# Altium footprint library Rich Footprints.PcbLib: 155 footprints (part 7 of 10)
Each footprint in its own frame and in the unit in brackets; x right, y up, seen from the top. Pads: shape width x height; smd on the part's side, far side on the other; paste and mask are expansions set on the pad; w line width, h text height; cw(c..) or ccw(c..) is an arc to the next point about the centre after c.
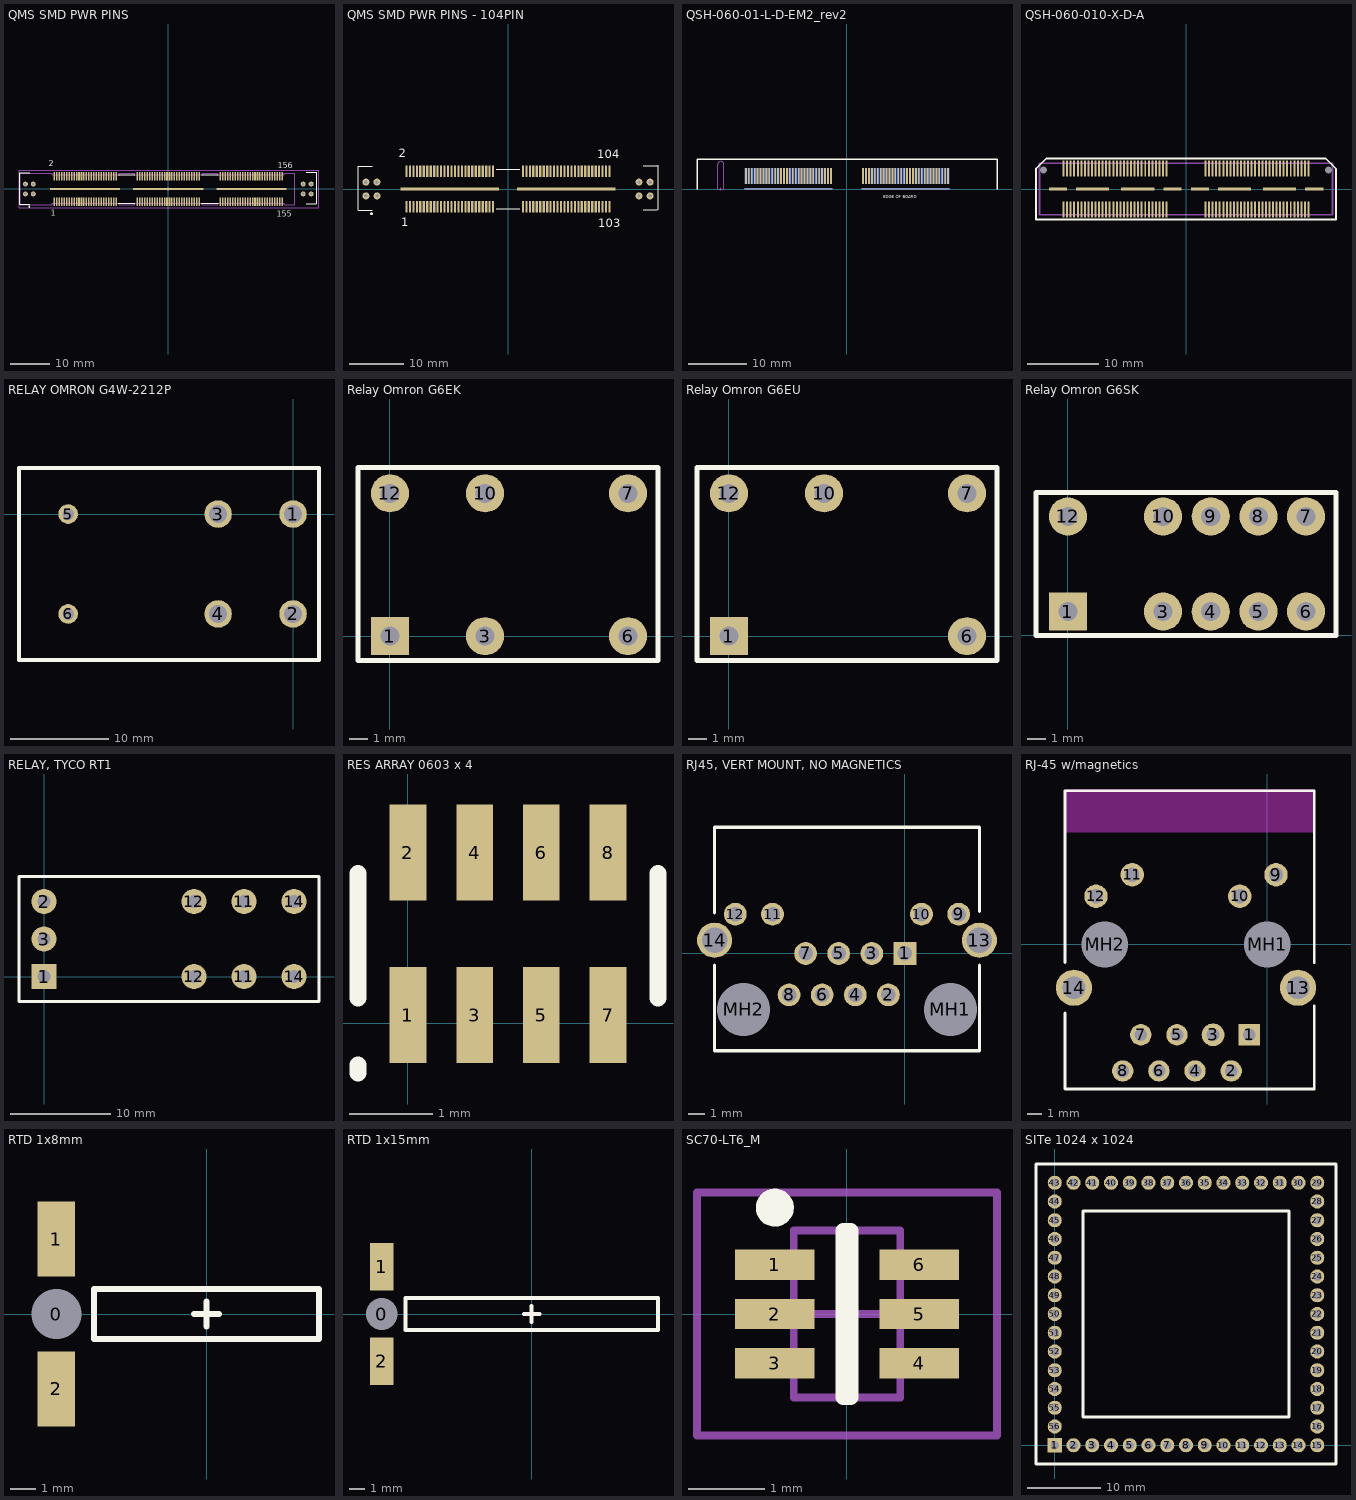
[diagram p6: the footprints below, top view; thin cyan lines are the x and y axes]

## QMS SMD PWR PINS [mm] "78 pos (156 pin) + 8 pwr pins"
height 7.06
pads (167):
  rect 0.4x2.15 smd mask+0: 1(-29.28,-3.24) 2(-29.28,3.24) 3(-28.645,-3.24) 4(-28.645,3.24) 5(-28.01,-3.24) 6(-28.01,3.24) 7(-27.375,-3.24) 8(-27.375,3.24) 9(-26.74,-3.24) 10(-26.74,3.24) 11(-26.105,-3.24) 12(-26.105,3.24) 13(-25.47,-3.24) 14(-25.47,3.24) 15(-24.835,-3.24) 16(-24.835,3.24) 17(-24.2,-3.24) 18(-24.2,3.24) 19(-23.565,-3.24) 20(-23.565,3.24) 21(-22.93,-3.24) 22(-22.93,3.24) 23(-22.295,-3.24) 24(-22.295,3.24) 25(-21.66,-3.24) 26(-21.66,3.24) 27(-21.025,-3.24) 28(-21.025,3.24) 29(-20.39,-3.24) 30(-20.39,3.24) 31(-19.755,-3.24) 32(-19.755,3.24) 33(-19.12,-3.24) 34(-19.12,3.24) 35(-18.485,-3.24) 36(-18.485,3.24) 37(-17.85,-3.24) 38(-17.85,3.24) 39(-17.215,-3.24) 40(-17.215,3.24) 41(-16.58,-3.24) 42(-16.58,3.24) 43(-15.945,-3.24) 44(-15.945,3.24) 45(-15.31,-3.24) 46(-15.31,3.24) 47(-14.675,-3.24) 48(-14.675,3.24) 49(-14.04,-3.24) 50(-14.04,3.24) 51(-13.405,-3.24) 52(-13.405,3.24) 53(-7.94,-3.24) 54(-7.94,3.24) 55(-7.305,-3.24) 56(-7.305,3.24) 57(-6.67,-3.24) 58(-6.67,3.24) 59(-6.035,-3.24) 60(-6.035,3.24) 61(-5.4,-3.24) 62(-5.4,3.24) 63(-4.765,-3.24) 64(-4.765,3.24) 65(-4.13,-3.24) 66(-4.13,3.24) 67(-3.495,-3.24) 68(-3.495,3.24) 69(-2.86,-3.24) 70(-2.86,3.24) 71(-2.225,-3.24) 72(-2.225,3.24) 73(-1.59,-3.24) 74(-1.59,3.24) 75(-0.955,-3.24) 76(-0.955,3.24) 77(-0.32,-3.24) 78(-0.32,3.24) 79(0.315,-3.24) 80(0.315,3.24) 81(0.95,-3.24) 82(0.95,3.24) 83(1.585,-3.24) 84(1.585,3.24) 85(2.22,-3.24) 86(2.22,3.24) 87(2.855,-3.24) 88(2.855,3.24) 89(3.49,-3.24) 90(3.49,3.24) 91(4.125,-3.24) 92(4.125,3.24) 93(4.76,-3.24) 94(4.76,3.24) 95(5.395,-3.24) 96(5.395,3.24) 97(6.03,-3.24) 98(6.03,3.24) 99(6.665,-3.24) 100(6.665,3.24) 101(7.3,-3.24) 102(7.3,3.24) 103(7.935,-3.24) 104(7.935,3.24) 105(13.4,-3.24) 106(13.4,3.24) 107(14.035,-3.24) 108(14.035,3.24) 109(14.67,-3.24) 110(14.67,3.24) 111(15.305,-3.24) 112(15.305,3.24) 113(15.94,-3.24) 114(15.94,3.24) 115(16.575,-3.24) 116(16.575,3.24) 117(17.21,-3.24) 118(17.21,3.24) 119(17.845,-3.24) 120(17.845,3.24) 121(18.48,-3.24) 122(18.48,3.24) 123(19.115,-3.24) 124(19.115,3.24) 125(19.75,-3.24) 126(19.75,3.24) 127(20.385,-3.24) 128(20.385,3.24) 129(21.02,-3.24) 130(21.02,3.24) 131(21.655,-3.24) 132(21.655,3.24) 133(22.29,-3.24) 134(22.29,3.24) 135(22.925,-3.24) 136(22.925,3.24) 137(23.56,-3.24) 138(23.56,3.24) 139(24.195,-3.24) 140(24.195,3.24) 141(24.83,-3.24) 142(24.83,3.24) 143(25.465,-3.24) 144(25.465,3.24) 145(26.1,-3.24) 146(26.1,3.24) 147(26.735,-3.24) 148(26.735,3.24) 149(27.37,-3.24) 150(27.37,3.24) 151(28.005,-3.24) 152(28.005,3.24) 153(28.64,-3.24) 154(28.64,3.24) 155(29.275,-3.24) 156(29.275,3.24)
  rect 18x0.5 smd mask+0: 157(-21.34,0) 158(0,0) 159(21.34,0)
  round 1.27 hole 0.635 mask+0: PC01(-36.703,-1.27) PC02(-36.703,1.27) PC03(-34.671,-1.27) PC04(-34.684,1.27) PC05(34.671,-1.27) PC06(34.671,1.27) PC07(36.703,-1.27) PC08(36.703,1.27)
Top Overlay:
  circle w0.25: c-35.71,-4.521 r0.125
  lines w0.2: -38.16,-3.937 -35.56,-3.937 ; -38.135,-3.92 -38.135,-1.895 -38.135,2.155 -38.135,4.18 -35.535,4.18 ; -12.8,-3.65 -8.55,-3.65 ; -12.8,3.65 -8.55,3.65 ; 8.5,-3.65 12.8,-3.65 ; 8.55,3.65 12.8,3.65 ; 35.449,-3.835 38.049,-3.835 ; 35.475,4.267 38.075,4.267 ; 38.151,-3.785 38.151,4.315
  text "155" at 27.94,-7.112 h1.52
  text "156" at 28.194,5.334 h1.52
  text "1" at -30.226,-6.858 h1.52
  text "2" at -30.734,5.842 h1.52
Mechanical 12:
  lines w0.001: -38.075,-4.05 -38.075,4.05 -29.75,4.05 -29.75,3.65 -12.65,3.65 -12.65,4.05 -8.65,4.05 -8.65,3.65 8.7,3.65 8.7,4.05 12.7,4.05 12.7,3.65 29.75,3.65 29.75,4.05 32.5,4.05 32.5,-4.05 29.75,-4.05 29.75,-3.65 12.7,-3.65 12.7,-4.05 8.7,-4.05 8.7,-3.65 -8.65,-3.65 -8.65,-4.05 -12.65,-4.05 -12.65,-3.65 -29.75,-3.65 -29.75,-4.05 -38.075,-4.05
Mechanical 15:
  lines w0.05: -0.5,0 0.5,0 ; 0,-0.5 0,0.5 ; -38.354,-4.8 -38.354,4.85 38.735,4.85 38.735,-4.8 -38.354,-4.8

## QMS SMD PWR PINS - 104PIN [mm] "52pos (104 pin) + 8 pwr pins"
height 7.06
pads (114):
  rect 0.4x2.15 smd mask+0: 1(-18.612,-3.24) 2(-18.612,3.24) 3(-17.977,-3.24) 4(-17.977,3.24) 5(-17.342,-3.24) 6(-17.342,3.24) 7(-16.707,-3.24) 8(-16.707,3.24) 9(-16.072,-3.24) 10(-16.072,3.24) 11(-15.437,-3.24) 12(-15.437,3.24) 13(-14.802,-3.24) 14(-14.802,3.24) 15(-14.167,-3.24) 16(-14.167,3.24) 17(-13.532,-3.24) 18(-13.532,3.24) 19(-12.897,-3.24) 20(-12.897,3.24) 21(-12.262,-3.24) 22(-12.262,3.24) 23(-11.627,-3.24) 24(-11.627,3.24) 25(-10.992,-3.24) 26(-10.992,3.24) 27(-10.357,-3.24) 28(-10.357,3.24) 29(-9.722,-3.24) 30(-9.722,3.24) 31(-9.087,-3.24) 32(-9.087,3.24) 33(-8.452,-3.24) 34(-8.452,3.24) 35(-7.817,-3.24) 36(-7.817,3.24) 37(-7.182,-3.24) 38(-7.182,3.24) 39(-6.547,-3.24) 40(-6.547,3.24) 41(-5.912,-3.24) 42(-5.912,3.24) 43(-5.277,-3.24) 44(-5.277,3.24) 45(-4.642,-3.24) 46(-4.642,3.24) 47(-4.007,-3.24) 48(-4.007,3.24) 49(-3.372,-3.24) 50(-3.372,3.24) 51(-2.737,-3.24) 52(-2.737,3.24) 53(2.728,-3.24) 54(2.728,3.24) 55(3.363,-3.24) 56(3.363,3.24) 57(3.998,-3.24) 58(3.998,3.24) 59(4.633,-3.24) 60(4.633,3.24) 61(5.268,-3.24) 62(5.268,3.24) 63(5.903,-3.24) 64(5.903,3.24) 65(6.538,-3.24) 66(6.538,3.24) 67(7.173,-3.24) 68(7.173,3.24) 69(7.808,-3.24) 70(7.808,3.24) 71(8.443,-3.24) 72(8.443,3.24) 73(9.078,-3.24) 74(9.078,3.24) 75(9.713,-3.24) 76(9.713,3.24) 77(10.348,-3.24) 78(10.348,3.24) 79(10.983,-3.24) 80(10.983,3.24) 81(11.618,-3.24) 82(11.618,3.24) 83(12.253,-3.24) 84(12.253,3.24) 85(12.888,-3.24) 86(12.888,3.24) 87(13.523,-3.24) 88(13.523,3.24) 89(14.158,-3.24) 90(14.158,3.24) 91(14.793,-3.24) 92(14.793,3.24) 93(15.428,-3.24) 94(15.428,3.24) 95(16.063,-3.24) 96(16.063,3.24) 97(16.698,-3.24) 98(16.698,3.24) 99(17.333,-3.24) 100(17.333,3.24) 101(17.968,-3.24) 102(17.968,3.24) 103(18.603,-3.24) 104(18.603,3.24)
  rect 18x0.5 smd mask+0: 105(-10.672,0) 106(10.668,0)
  round 1.27 hole 0.635 mask+0: PC01(-26.035,-1.27) PC02(-26.035,1.27) PC03(-24.003,-1.27) PC04(-24.016,1.27) PC05(24.003,-1.27) PC06(24.003,1.27) PC07(26.035,-1.27) PC08(26.035,1.27)
Top Overlay:
  circle w0.25: c-25.042,-4.521 r0.125
  lines w0.2: -27.492,-3.937 -24.892,-3.937 ; -27.467,-3.92 -27.467,-1.895 -27.467,2.155 -27.467,4.18 -24.867,4.18 ; -2.132,-3.65 2.118,-3.65 ; -2.132,3.65 2.118,3.65 ; 24.781,-3.835 27.381,-3.835 ; 24.807,4.267 27.407,4.267 ; 27.483,-3.785 27.483,4.315
  text "103" at 16.568,-7 h1.52
  text "104" at 16.368,5.6 h1.52
  text "1" at -19.558,-6.858 h1.52
  text "2" at -20.066,5.842 h1.52

## QSH-060-01-L-D-EM2_rev2 [mil] "SAMTEC QSH EDGE CONNECTOR"
pads (124):
  rect 12x105 smd far side paste-6 mask-3.5: 1(-679.4,87.5) 3(-659.7,87.5) 5(-640,87.5) 7(-620.3,87.5) 9(-600.6,87.5) 11(-580.9,87.5) 13(-561.2,87.5) 15(-541.5,87.5) 17(-521.8,87.5) 19(-502.1,87.5) 21(-482.4,87.5) 23(-462.7,87.5) 25(-443,87.5) 27(-423.3,87.5) 29(-403.6,87.5) 31(-383.9,87.5) 33(-364.2,87.5) 35(-344.5,87.5) 37(-324.8,87.5) 39(-305.1,87.5) 41(-285.4,87.5) 43(-265.7,87.5) 45(-246,87.5) 47(-226.3,87.5) 49(-206.6,87.5) 51(-186.9,87.5) 53(-167.2,87.5) 55(-147.5,87.5) 57(-127.8,87.5) 59(-108.1,87.5) 61(108.1,87.5) 63(127.8,87.5) 65(147.5,87.5) 67(167.2,87.5) 69(186.9,87.5) 71(206.6,87.5) 73(226.3,87.5) 75(246,87.5) 77(265.7,87.5) 79(285.4,87.5) 81(305.1,87.5) 83(324.8,87.5) 85(344.5,87.5) 87(364.2,87.5) 89(383.9,87.5) 91(403.6,87.5) 93(423.3,87.5) 95(443,87.5) 97(462.7,87.5) 99(482.4,87.5) 101(502.1,87.5) 103(521.8,87.5) 105(541.5,87.5) 107(561.2,87.5) 109(580.9,87.5) 111(600.6,87.5) 113(620.3,87.5) 115(640,87.5) 117(659.7,87.5) 119(679.4,87.5)
  rect 12x105 smd paste-6 mask-3.5: 2(-679.4,87.5) 4(-659.7,87.5) 6(-640,87.5) 8(-620.3,87.5) 10(-600.6,87.5) 12(-580.9,87.5) 14(-561.2,87.5) 16(-541.5,87.5) 18(-521.8,87.5) 20(-502.1,87.5) 22(-482.4,87.5) 24(-462.7,87.5) 26(-443,87.5) 28(-423.3,87.5) 30(-403.6,87.5) 32(-383.9,87.5) 34(-364.2,87.5) 36(-344.5,87.5) 38(-324.8,87.5) 40(-305.1,87.5) 42(-285.4,87.5) 44(-265.7,87.5) 46(-246,87.5) 48(-226.3,87.5) 50(-206.6,87.5) 52(-186.9,87.5) 54(-167.2,87.5) 56(-147.5,87.5) 58(-127.8,87.5) 60(-108.1,87.5) 62(108.1,87.5) 64(127.8,87.5) 66(147.5,87.5) 68(167.2,87.5) 70(186.9,87.5) 72(206.6,87.5) 74(226.3,87.5) 76(246,87.5) 78(265.7,87.5) 80(285.4,87.5) 82(305.1,87.5) 84(324.8,87.5) 86(344.5,87.5) 88(364.2,87.5) 90(383.9,87.5) 92(403.6,87.5) 94(423.3,87.5) 96(443,87.5) 98(462.7,87.5) 100(482.4,87.5) 102(502.1,87.5) 104(521.8,87.5) 106(541.5,87.5) 108(561.2,87.5) 110(580.9,87.5) 112(600.6,87.5) 114(620.3,87.5) 116(640,87.5) 118(659.7,87.5) 120(679.4,87.5)
  rect 590.55x9.65 smd: 121(-393.75,0) 122(393.65,0)
  rect 590.55x9.65 smd far side: 121(-393.75,0) 122(393.65,0)
Top Overlay:
  lines w10: -1007.59,0 -1007.59,200 1007.61,200 1007.61,0
  text "EDGE OF BOARD" at 242.01,-63 h20
Bottom Overlay:
  lines w10: -1007.59,0 -1007.59,200 1007.61,200 1007.61,0
Top Paste:
  rectangle: 673.4,65 685.4,140
  rectangle: 653.7,65 665.7,140
  rectangle: 634,65 646,140
  rectangle: 614.3,65 626.3,140
  rectangle: 594.6,65 606.6,140
  rectangle: 574.9,65 586.9,140
  rectangle: 555.2,65 567.2,140
  rectangle: 535.5,65 547.5,140
  rectangle: 515.8,65 527.8,140
  rectangle: 496.1,65 508.1,140
  rectangle: 476.4,65 488.4,140
  rectangle: 456.7,65 468.7,140
  rectangle: 437,65 449,140
  rectangle: 417.3,65 429.3,140
  rectangle: 397.6,65 409.6,140
  rectangle: 377.9,65 389.9,140
  rectangle: 358.2,65 370.2,140
  rectangle: 338.5,65 350.5,140
  rectangle: 318.8,65 330.8,140
  rectangle: 299.1,65 311.1,140
  rectangle: 279.4,65 291.4,140
  rectangle: 259.7,65 271.7,140
  rectangle: 240,65 252,140
  rectangle: 220.3,65 232.3,140
  rectangle: 200.6,65 212.6,140
  rectangle: 180.9,65 192.9,140
  rectangle: 161.2,65 173.2,140
  rectangle: 141.5,65 153.5,140
  rectangle: 121.8,65 133.8,140
  rectangle: 102.1,65 114.1,140
  rectangle: -114.1,65 -102.1,140
  rectangle: -133.8,65 -121.8,140
  rectangle: -153.5,65 -141.5,140
  rectangle: -173.2,65 -161.2,140
  rectangle: -192.9,65 -180.9,140
  rectangle: -212.6,65 -200.6,140
  rectangle: -232.3,65 -220.3,140
  rectangle: -252,65 -240,140
  rectangle: -271.7,65 -259.7,140
  rectangle: -291.4,65 -279.4,140
  rectangle: -311.1,65 -299.1,140
  rectangle: -330.8,65 -318.8,140
  rectangle: -350.5,65 -338.5,140
  rectangle: -370.2,65 -358.2,140
  rectangle: -389.9,65 -377.9,140
  rectangle: -409.6,65 -397.6,140
  rectangle: -429.3,65 -417.3,140
  rectangle: -449,65 -437,140
  rectangle: -468.7,65 -456.7,140
  rectangle: -488.4,65 -476.4,140
  rectangle: -508.1,65 -496.1,140
  rectangle: -527.8,65 -515.8,140
  rectangle: -547.5,65 -535.5,140
  rectangle: -567.2,65 -555.2,140
  rectangle: -586.9,65 -574.9,140
  rectangle: -606.6,65 -594.6,140
  rectangle: -626.3,65 -614.3,140
  rectangle: -646,65 -634,140
  rectangle: -665.7,65 -653.7,140
  rectangle: -685.4,65 -673.4,140
Bottom Paste:
  region: -102.1,140 -114.1,140 -114.1,65 -102.1,65
  region: -121.8,140 -133.8,140 -133.8,65 -121.8,65
  region: -141.5,140 -153.5,140 -153.5,65 -141.5,65
  region: -161.2,140 -173.2,140 -173.2,65 -161.2,65
  region: -180.9,140 -192.9,140 -192.9,65 -180.9,65
  region: -200.6,140 -212.6,140 -212.6,65 -200.6,65
  region: -220.3,140 -232.3,140 -232.3,65 -220.3,65
  region: -240,140 -252,140 -252,65 -240,65
  region: -259.7,140 -271.7,140 -271.7,65 -259.7,65
  region: -279.4,140 -291.4,140 -291.4,65 -279.4,65
  region: -299.1,140 -311.1,140 -311.1,65 -299.1,65
  region: -318.8,140 -330.8,140 -330.8,65 -318.8,65
  region: -338.5,140 -350.5,140 -350.5,65 -338.5,65
  region: -358.2,140 -370.2,140 -370.2,65 -358.2,65
  region: -377.9,140 -389.9,140 -389.9,65 -377.9,65
  region: -397.6,140 -409.6,140 -409.6,65 -397.6,65
  region: -417.3,140 -429.3,140 -429.3,65 -417.3,65
  region: -437,140 -449,140 -449,65 -437,65
  region: -456.7,140 -468.7,140 -468.7,65 -456.7,65
  region: -476.4,140 -488.4,140 -488.4,65 -476.4,65
  region: -496.1,140 -508.1,140 -508.1,65 -496.1,65
  region: -515.8,140 -527.8,140 -527.8,65 -515.8,65
  region: -535.5,140 -547.5,140 -547.5,65 -535.5,65
  region: -555.2,140 -567.2,140 -567.2,65 -555.2,65
  region: -574.9,140 -586.9,140 -586.9,65 -574.9,65
  region: -594.6,140 -606.6,140 -606.6,65 -594.6,65
  region: -614.3,140 -626.3,140 -626.3,65 -614.3,65
  region: -634,140 -646,140 -646,65 -634,65
  region: -653.7,140 -665.7,140 -665.7,65 -653.7,65
  region: -673.4,140 -685.4,140 -685.4,65 -673.4,65
  region: 114.1,140 102.1,140 102.1,65 114.1,65
  region: 133.8,140 121.8,140 121.8,65 133.8,65
  region: 153.5,140 141.5,140 141.5,65 153.5,65
  region: 173.2,140 161.2,140 161.2,65 173.2,65
  region: 192.9,140 180.9,140 180.9,65 192.9,65
  region: 212.6,140 200.6,140 200.6,65 212.6,65
  region: 232.3,140 220.3,140 220.3,65 232.3,65
  region: 252,140 240,140 240,65 252,65
  region: 271.7,140 259.7,140 259.7,65 271.7,65
  region: 291.4,140 279.4,140 279.4,65 291.4,65
  region: 311.1,140 299.1,140 299.1,65 311.1,65
  region: 330.8,140 318.8,140 318.8,65 330.8,65
  region: 350.5,140 338.5,140 338.5,65 350.5,65
  region: 370.2,140 358.2,140 358.2,65 370.2,65
  region: 389.9,140 377.9,140 377.9,65 389.9,65
  region: 409.6,140 397.6,140 397.6,65 409.6,65
  region: 429.3,140 417.3,140 417.3,65 429.3,65
  region: 449,140 437,140 437,65 449,65
  region: 468.7,140 456.7,140 456.7,65 468.7,65
  region: 488.4,140 476.4,140 476.4,65 488.4,65
  region: 508.1,140 496.1,140 496.1,65 508.1,65
  region: 527.8,140 515.8,140 515.8,65 527.8,65
  region: 547.5,140 535.5,140 535.5,65 547.5,65
  region: 567.2,140 555.2,140 555.2,65 567.2,65
  region: 586.9,140 574.9,140 574.9,65 586.9,65
  region: 606.6,140 594.6,140 594.6,65 606.6,65
  region: 626.3,140 614.3,140 614.3,65 626.3,65
  region: 646,140 634,140 634,65 646,65
  region: 665.7,140 653.7,140 653.7,65 665.7,65
  region: 685.4,140 673.4,140 673.4,65 685.4,65
Top Solder:
  rectangle: 673.4,35 685.4,95
  rectangle: 653.7,35 665.7,95
  rectangle: 634,35 646,95
  rectangle: 614.3,35 626.3,95
  rectangle: 594.6,35 606.6,95
  rectangle: 574.9,35 586.9,95
  rectangle: 555.2,35 567.2,95
  rectangle: 535.5,35 547.5,95
  rectangle: 515.8,35 527.8,95
  rectangle: 496.1,35 508.1,95
  rectangle: 476.4,35 488.4,95
  rectangle: 456.7,35 468.7,95
  rectangle: 437,35 449,95
  rectangle: 417.3,35 429.3,95
  rectangle: 397.6,35 409.6,95
  rectangle: 377.9,35 389.9,95
  rectangle: 358.2,35 370.2,95
  rectangle: 338.5,35 350.5,95
  rectangle: 318.8,35 330.8,95
  rectangle: 299.1,35 311.1,95
  rectangle: 279.4,35 291.4,95
  rectangle: 259.7,35 271.7,95
  rectangle: 240,35 252,95
  rectangle: 220.3,35 232.3,95
  rectangle: 200.6,35 212.6,95
  rectangle: 180.9,35 192.9,95
  rectangle: 161.2,35 173.2,95
  rectangle: 141.5,35 153.5,95
  rectangle: 121.8,35 133.8,95
  rectangle: 102.1,35 114.1,95
  rectangle: -114.1,35 -102.1,95
  rectangle: -133.8,35 -121.8,95
  rectangle: -153.5,35 -141.5,95
  rectangle: -173.2,35 -161.2,95
  rectangle: -192.9,35 -180.9,95
  rectangle: -212.6,35 -200.6,95
  rectangle: -232.3,35 -220.3,95
  rectangle: -252,35 -240,95
  rectangle: -271.7,35 -259.7,95
  rectangle: -291.4,35 -279.4,95
  rectangle: -311.1,35 -299.1,95
  rectangle: -330.8,35 -318.8,95
  rectangle: -350.5,35 -338.5,95
  rectangle: -370.2,35 -358.2,95
  rectangle: -389.9,35 -377.9,95
  rectangle: -409.6,35 -397.6,95
  rectangle: -429.3,35 -417.3,95
  rectangle: -449,35 -437,95
  rectangle: -468.7,35 -456.7,95
  rectangle: -488.4,35 -476.4,95
  rectangle: -508.1,35 -496.1,95
  rectangle: -527.8,35 -515.8,95
  rectangle: -547.5,35 -535.5,95
  rectangle: -567.2,35 -555.2,95
  rectangle: -586.9,35 -574.9,95
  rectangle: -606.6,35 -594.6,95
  rectangle: -626.3,35 -614.3,95
  rectangle: -646,35 -634,95
  rectangle: -665.7,35 -653.7,95
  rectangle: -685.4,35 -673.4,95
Bottom Solder:
  region: -102.1,95 -114.1,95 -114.1,35 -102.1,35
  region: -121.8,95 -133.8,95 -133.8,35 -121.8,35
  region: -141.5,95 -153.5,95 -153.5,35 -141.5,35
  region: -161.2,95 -173.2,95 -173.2,35 -161.2,35
  region: -180.9,95 -192.9,95 -192.9,35 -180.9,35
  region: -200.6,95 -212.6,95 -212.6,35 -200.6,35
  region: -220.3,95 -232.3,95 -232.3,35 -220.3,35
  region: -240,95 -252,95 -252,35 -240,35
  region: -259.7,95 -271.7,95 -271.7,35 -259.7,35
  region: -279.4,95 -291.4,95 -291.4,35 -279.4,35
  region: -299.1,95 -311.1,95 -311.1,35 -299.1,35
  region: -318.8,95 -330.8,95 -330.8,35 -318.8,35
  region: -338.5,95 -350.5,95 -350.5,35 -338.5,35
  region: -358.2,95 -370.2,95 -370.2,35 -358.2,35
  region: -377.9,95 -389.9,95 -389.9,35 -377.9,35
  region: -397.6,95 -409.6,95 -409.6,35 -397.6,35
  region: -417.3,95 -429.3,95 -429.3,35 -417.3,35
  region: -437,95 -449,95 -449,35 -437,35
  region: -456.7,95 -468.7,95 -468.7,35 -456.7,35
  region: -476.4,95 -488.4,95 -488.4,35 -476.4,35
  region: -496.1,95 -508.1,95 -508.1,35 -496.1,35
  region: -515.8,95 -527.8,95 -527.8,35 -515.8,35
  region: -535.5,95 -547.5,95 -547.5,35 -535.5,35
  region: -555.2,95 -567.2,95 -567.2,35 -555.2,35
  region: -574.9,95 -586.9,95 -586.9,35 -574.9,35
  region: -594.6,95 -606.6,95 -606.6,35 -594.6,35
  region: -614.3,95 -626.3,95 -626.3,35 -614.3,35
  region: -634,95 -646,95 -646,35 -634,35
  region: -653.7,95 -665.7,95 -665.7,35 -653.7,35
  region: -673.4,95 -685.4,95 -685.4,35 -673.4,35
  region: 114.1,95 102.1,95 102.1,35 114.1,35
  region: 133.8,95 121.8,95 121.8,35 133.8,35
  region: 153.5,95 141.5,95 141.5,35 153.5,35
  region: 173.2,95 161.2,95 161.2,35 173.2,35
  region: 192.9,95 180.9,95 180.9,35 192.9,35
  region: 212.6,95 200.6,95 200.6,35 212.6,35
  region: 232.3,95 220.3,95 220.3,35 232.3,35
  region: 252,95 240,95 240,35 252,35
  region: 271.7,95 259.7,95 259.7,35 271.7,35
  region: 291.4,95 279.4,95 279.4,35 291.4,35
  region: 311.1,95 299.1,95 299.1,35 311.1,35
  region: 330.8,95 318.8,95 318.8,35 330.8,35
  region: 350.5,95 338.5,95 338.5,35 350.5,35
  region: 370.2,95 358.2,95 358.2,35 370.2,35
  region: 389.9,95 377.9,95 377.9,35 389.9,35
  region: 409.6,95 397.6,95 397.6,35 409.6,35
  region: 429.3,95 417.3,95 417.3,35 429.3,35
  region: 449,95 437,95 437,35 449,35
  region: 468.7,95 456.7,95 456.7,35 468.7,35
  region: 488.4,95 476.4,95 476.4,35 488.4,35
  region: 508.1,95 496.1,95 496.1,35 508.1,35
  region: 527.8,95 515.8,95 515.8,35 527.8,35
  region: 547.5,95 535.5,95 535.5,35 547.5,35
  region: 567.2,95 555.2,95 555.2,35 567.2,35
  region: 586.9,95 574.9,95 574.9,35 586.9,35
  region: 606.6,95 594.6,95 594.6,35 606.6,35
  region: 626.3,95 614.3,95 614.3,35 626.3,35
  region: 646,95 634,95 634,35 646,35
  region: 665.7,95 653.7,95 653.7,35 665.7,35
  region: 685.4,95 673.4,95 673.4,35 685.4,35
Mechanical 1:
  lines w2: -857.9,0 -837.9,0 ; -847.9,-10 -847.9,10
  lines w5: -869.4,0 -869.4,163.5 cw(c-847.9,163.5) -826.4,163.5 -826.4,0

## QSH-060-010-X-D-A [mm] "Samtec QSH (on SF Module)"
pads (130):
  round 0.508 hole 1.016 unplated mask+0.508: 0(-20.066,2.667) 0(20.066,2.667)
  rect 0.28x2.27 smd mask+0.05: 1(-17.257,-2.87) 2(-17.257,2.87) 3(-16.756,-2.87) 4(-16.756,2.87) 5(-16.256,-2.87) 6(-16.256,2.87) 7(-15.756,-2.87) 8(-15.756,2.87) 9(-15.255,-2.87) 10(-15.255,2.87) 11(-14.755,-2.87) 12(-14.755,2.87) 13(-14.255,-2.87) 14(-14.255,2.87) 15(-13.754,-2.87) 16(-13.754,2.87) 17(-13.254,-2.87) 18(-13.254,2.87) 19(-12.753,-2.87) 20(-12.753,2.87) 21(-12.253,-2.87) 22(-12.253,2.87) 23(-11.753,-2.87) 24(-11.753,2.87) 25(-11.252,-2.87) 26(-11.252,2.87) 27(-10.752,-2.87) 28(-10.752,2.87) 29(-10.252,-2.87) 30(-10.252,2.87) 31(-9.751,-2.87) 32(-9.751,2.87) 33(-9.251,-2.87) 34(-9.251,2.87) 35(-8.75,-2.87) 36(-8.75,2.87) 37(-8.25,-2.87) 38(-8.25,2.87) 39(-7.75,-2.87) 40(-7.75,2.87) 41(-7.249,-2.87) 42(-7.249,2.87) 43(-6.749,-2.87) 44(-6.749,2.87) 45(-6.248,-2.87) 46(-6.248,2.87) 47(-5.748,-2.87) 48(-5.748,2.87) 49(-5.248,-2.87) 50(-5.248,2.87) 51(-4.747,-2.87) 52(-4.747,2.87) 53(-4.247,-2.87) 54(-4.247,2.87) 55(-3.747,-2.87) 56(-3.747,2.87) 57(-3.246,-2.87) 58(-3.246,2.87) 59(-2.746,-2.87) 60(-2.746,2.87) 61(2.746,-2.87) 62(2.746,2.87) 63(3.246,-2.87) 64(3.246,2.87) 65(3.746,-2.87) 66(3.746,2.87) 67(4.247,-2.87) 68(4.247,2.87) 69(4.747,-2.87) 70(4.747,2.87) 71(5.248,-2.87) 72(5.248,2.87) 73(5.748,-2.87) 74(5.748,2.87) 75(6.248,-2.87) 76(6.248,2.87) 77(6.749,-2.87) 78(6.749,2.87) 79(7.249,-2.87) 80(7.249,2.87) 81(7.749,-2.87) 82(7.749,2.87) 83(8.25,-2.87) 84(8.25,2.87) 85(8.75,-2.87) 86(8.75,2.87) 87(9.251,-2.87) 88(9.251,2.87) 89(9.751,-2.87) 90(9.751,2.87) 91(10.251,-2.87) 92(10.251,2.87) 93(10.752,-2.87) 94(10.752,2.87) 95(11.252,-2.87) 96(11.252,2.87) 97(11.753,-2.87) 98(11.753,2.87) 99(12.253,-2.87) 100(12.253,2.87) 101(12.753,-2.87) 102(12.753,2.87) 103(13.254,-2.87) 104(13.254,2.87) 105(13.754,-2.87) 106(13.754,2.87) 107(14.254,-2.87) 108(14.254,2.87) 109(14.755,-2.87) 110(14.755,2.87) 111(15.255,-2.87) 112(15.255,2.87) 113(15.756,-2.87) 114(15.756,2.87) 115(16.256,-2.87) 116(16.256,2.87) 117(16.756,-2.87) 118(16.756,2.87) 119(17.257,-2.87) 120(17.257,2.87)
  rect 2.54x0.432 smd mask+0.051: 121(-18.066,0) 121(-1.937,0) 122(1.937,0) 122(18.066,0)
  rect 4.699x0.432 smd mask+0.051: 121(-13.176,0) 121(-6.826,0) 122(13.176,0)
  rect 4.699x0.432 smd: 122(6.826,0)
Top Overlay:
  lines w0.254: -21.143,2.87 -19.685,4.3 ; -19.685,4.3 19.685,4.3 21.132,2.853 21.132,-4.3 -21.143,-4.3 -21.143,2.842 -19.685,4.3
Mechanical 1:
  lines w0.254: -20.643,-3.62 -20.643,3.62 20.632,3.62 20.632,-3.62 -20.643,-3.62
  text "J1" at -0.446,-0.457 h0.76

## RELAY OMRON G4W-2212P [mm] "OMRON AC SWITCHING RELAY"
pads (6):
  round 2.8 hole 1.8: 1(0,0) 2(0,-10.16) 3(-7.62,0) 4(-7.62,-10.16)
  round 2 hole 1.2: 5(-22.86,0) 6(-22.86,-10.16)
Top Overlay:
  lines w0.381: -27.86,-14.83 -27.86,4.67 2.64,4.67 2.64,-14.83 -27.86,-14.83

## Relay Omron G6EK [mil] "SPDT Dual Coil Latch"
pads (6):
  rect 80x80 hole 40: 1(0,0)
  round 80 hole 40: 3(200,0) 6(500,0) 7(500,300) 10(200,300) 12(0,300)
Top Overlay:
  lines w10: -66.93,-51.18 -66.93,0 -66.93,354.33 562.99,354.33 562.99,-51.18 -66.93,-51.18

## Relay Omron G6EU [mil] "SPDT Single Coil Latch"
pads (5):
  rect 80x80 hole 40: 1(0,0)
  round 80 hole 40: 6(500,0) 7(500,300) 10(200,300) 12(0,300)
Top Overlay:
  lines w10: -66.93,-51.18 -66.93,0 -66.93,354.33 562.99,354.33 562.99,-51.18 -66.93,-51.18

## Relay Omron G6SK [mil] "DPDT Dual Coil Latch"
pads (10):
  rect 80x80 hole 40: 1(0,50)
  round 80 hole 40: 3(200,50) 4(300,50) 5(400,50) 6(500,50) 7(500,250) 8(400,250) 9(300,250) 10(200,250) 12(0,250)
Top Overlay:
  lines w10: -66.93,0 -66.93,300 562.99,300 562.99,0 -66.93,0

## RELAY, TYCO RT1 [mm] "TYCO/SCHRACK RT314F24"
pads (9):
  rect 2.5x2.5 hole 1.3: 1(0,0)
  round 2.5 hole 1.3: 2(0,7.5) 3(0,3.75) 11(20,0) 11(20,7.5) 12(15,0) 12(15,7.5) 14(25,0) 14(25,7.5)
Top Overlay:
  lines w0.254: -2.5,-2.5 27.5,-2.5 27.5,10 -2.5,10 -2.5,-2.5

## RES ARRAY 0603 x 4 [mm]
pads (8):
  rect 0.44x1.15 smd: 1(0,0.1) 2(0,2.05) 3(0.8,0.1) 4(0.8,2.05) 5(1.6,0.1) 6(1.6,2.05) 7(2.4,0.1) 8(2.4,2.05)
Top Overlay:
  lines w0.2: -0.6,-0.6 -0.6,-0.5 ; -0.6,0.3 -0.6,1.8 ; 3,0.3 3,1.8

## RJ45, VERT MOUNT, NO MAGNETICS [mil] "Amphenol p/n RJHSE-3381"
pads (16):
  rect 55x55 hole 35: 1(0,0)
  round 55 hole 35: 2(-40,-100) 3(-80,0) 4(-120,-100) 5(-160,0) 6(-200,-100) 7(-240,0) 8(-280,-100) 9(130,95) 10(40,95) 11(-320,95) 12(-410,95)
  round 85 hole 62: 13(180,32) 14(-460,32)
  round 116.14 hole 127.95 unplated: MH1(110,-135) MH2(-390,-135)
Top Overlay:
  lines w7.87: -460,-27.56 -460,-235 180,-235 180,-27.56 ; -460,98.43 -460,305 180,305 180,102.36

## RJ-45 w/magnetics [mm] "Conn, Pulse Eng p/n J0011D01BNL"
height 18.92
pads (16):
  rect 1.5x1.5 hole 0.9: 1(-1.27,-6.35)
  round 1.5 hole 0.9: 2(-2.54,-8.89) 4(-5.08,-8.89) 5(-6.35,-6.35) 6(-7.62,-8.89) 7(-8.89,-6.35) 8(-10.16,-8.89)
  round 1.6 hole 0.9: 3(-3.81,-6.35)
  round 1.651 hole 1.016: 9(0.61,4.902) 10(-1.93,3.378) 11(-9.5,4.902) 12(-12.04,3.378)
  round 2.54 hole 1.6: 13(2.159,-3.048) 14(-13.589,-3.048)
  round 2.95 hole 3.25 unplated: MH1(0,0) MH2(-11.43,0)
Top Overlay:
  lines w0.2: -14.224,-4.826 -14.224,-10.16 3.302,-10.16 3.302,-4.318 ; -14.224,-1.27 -14.224,10.795 0,10.795 3.302,10.795 3.302,-1.27
Keep-Out Layer:
  rectangle: -14.224,7.874 3.302,10.922

## RTD 1x8mm [mm] "RTD"
pads (3):
  round 1.778 hole 2 unplated: 0(-6,0)
  rect 1.5x3 smd: 1(-6,3) 2(-6,-3)
Top Overlay:
  lines w0.254: -0.5,0 0,0 ; 0.5,0 0,0 ; 0,0 0,-0.5 0,0.5 0,0 ; -4.5,-1 4.5,-1 4.5,1 -4.5,1 -4.5,-1

## RTD 1x15mm [mm] "RTD"
pads (3):
  round 1.778 hole 2 unplated: 0(-9.5,0)
  rect 1.5x3 smd: 1(-9.5,3) 2(-9.5,-3)
Top Overlay:
  lines w0.254: -0.5,0 0.5,0 ; 0,-0.5 0,0.5 ; -8,-1 8,-1 8,1 -8,1 -8,-1

## SC70-LT6_M [mm] "SOT363, 6-Leads, Body 2x1.3mm, Pitch 0.65mm, Lead Span 2.1mm, IPC Low Density"
height 1.1
pads (6):
  rect 1.05x0.4 smd: 1(-0.95,0.65) 2(-0.95,0) 3(-0.95,-0.65) 4(0.95,-0.65) 5(0.95,0) 6(0.95,0.65)
Top Overlay:
  circle w0.25: c-0.95,1.4 r0.125
  lines w0.2: -0.05,-1.1 -0.05,1.1 0.05,1.1 0.05,-1.1 -0.05,-1.1
Mechanical 13:
  lines w0.1: -0.7,-1.1 0.7,-1.1 0.7,1.1 -0.7,1.1 -0.7,-1.1
Mechanical 15:
  lines w0.1: -0.5,0 0.5,0 ; 0,-0.5 0,0.5 ; -1.975,-1.6 1.975,-1.6 1.975,1.6 -1.975,1.6 -1.975,-1.6
3D body: height 1.1, standoff 0, extent -0.7,-1.1 0.7,1.1

## SITe 1024 x 1024 [mil] "SITe CCD"
pads (56):
  rect 75x75 hole 46: 1(0,0)
  round 75 hole 46: 2(100,0) 3(200,0) 4(300,0) 5(400,0) 6(500,0) 7(600,0) 8(700,0) 9(800,0) 10(900,0) 11(1000,0) 12(1100,0) 13(1200,0) 14(1300,0) 15(1400,0) 16(1400,100) 17(1400,200) 18(1400,300) 19(1400,400) 20(1400,500) 21(1400,600) 22(1400,700) 23(1400,800) 24(1400,900) 25(1400,1000) 26(1400,1100) 27(1400,1200) 28(1400,1300) 29(1400,1400) 30(1300,1400) 31(1200,1400) 32(1100,1400) 33(1000,1400) 34(900,1400) 35(800,1400) 36(700,1400) 37(600,1400) 38(500,1400) 39(400,1400) 40(300,1400) 41(200,1400) 42(100,1400) 43(0,1400) 44(0,1300) 45(0,1200) 46(0,1100) 47(0,1000) 48(0,900) 49(0,800) 50(0,700) 51(0,600) 52(0,500) 53(0,400) 54(0,300) 55(0,200) 56(0,100)
Top Overlay:
  lines w15: -100,-100 -100,1500 1500,1500 1500,-100 -100,-100 ; 150,150 1250,150 1250,1250 150,1250 150,150